# Altium footprint library MOLEX KK 0022272031.PCBLIB: 1 footprints
Each footprint in its own frame and in the unit in brackets; x right, y up, seen from the top. Pads: shape width x height; smd on the part's side, far side on the other; paste and mask are expansions set on the pad; w line width, h text height; cw(c..) or ccw(c..) is an arc to the next point about the centre after c.
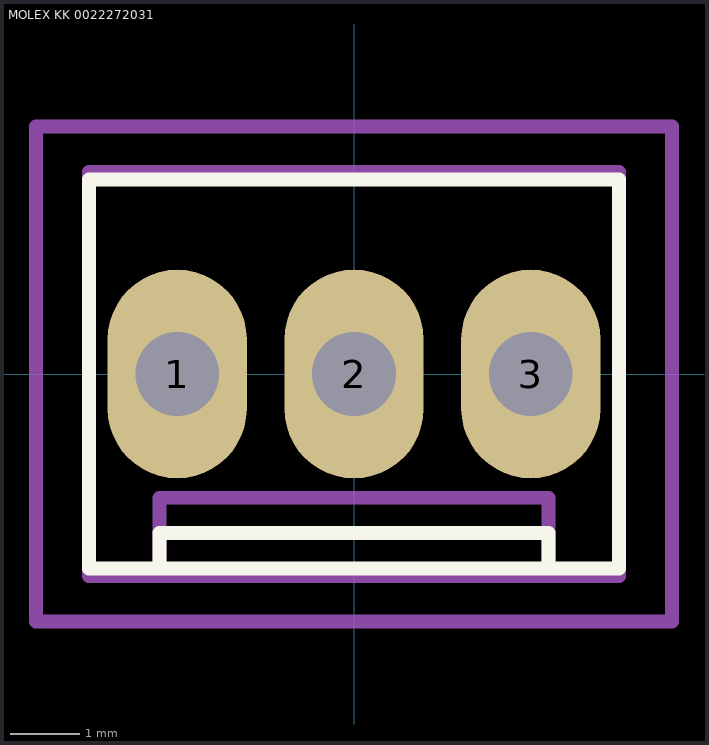
[diagram p0: the footprint, top view; thin cyan lines are the x and y axes]

## MOLEX KK 0022272031 [mm]
height 11.6
pads (3):
  oval 2x3 hole 1.2: 1(-2.54,0) 2(0,0) 3(2.54,0)
Top Overlay:
  lines w0.2: -2.794,-2.794 -2.794,-2.286 2.794,-2.286 2.794,-2.794 ; -3.81,-2.794 -3.81,2.794 3.81,2.794 3.81,-2.794 -3.81,-2.794
Mechanical 13:
  lines w0.2: -2.794,-2.9 -2.794,-1.778 2.794,-1.778 2.794,-2.9 ; -3.81,-2.9 3.81,-2.9 3.81,2.9 -3.81,2.9 -3.81,-2.9
Mechanical 15:
  lines w0.2: -0.508,0 0.508,0 ; 0,-0.508 0,0.508 ; -4.572,-3.556 -2.286,-3.556 4.572,-3.556 4.572,-1.016 4.572,3.556 -4.572,3.556 -4.572,-3.556
3D body "MOLEX KK 022272031.STEP": height 11.7, standoff -3.56, extent -3.81,-2.9 3.81,2.9